# Altium schematic symbol library USB2-HUB.SchLib: 10 symbols
Pins are listed as number, name and electrical type; pins without a type are passive.

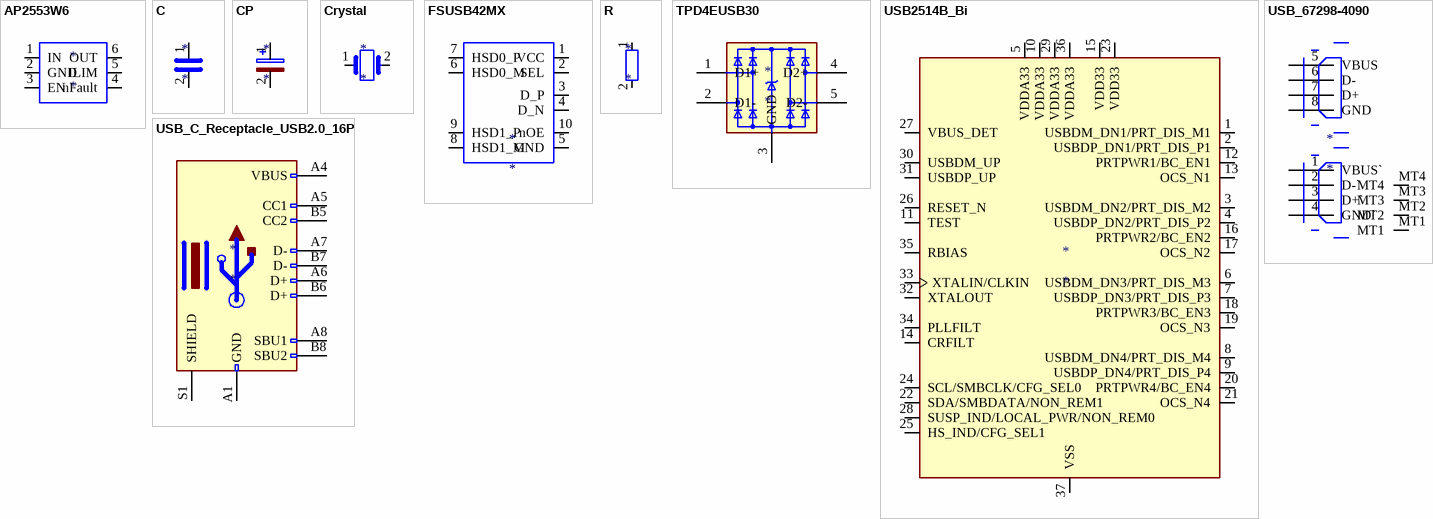
[diagram p0: symbols AP2553W6 to USB_C_Receptacle_USB2.0_16P]

## AP2553W6
designator *
pins: 1 IN, 2 GND, 3 EN, 4 nFault, 5 ILIM, 6 OUT

## C
designator *
pins: 1, 2

## CP
designator *
pins: 1, 2

## Crystal
designator *
pins: 1, 2

## FSUSB42MX
designator *
pins: 1 VCC, 2 SEL, 3 D_P, 4 D_N, 5 GND, 6 HSD0_M, 7 HSD0_P, 8 HSD1_M, 9 HSD1_P, 10 nOE

## R
designator *
pins: 1, 2

## TPD4EUSB30
designator *
pins: 1 D1+, 2 D1-, 3 GND, 4 D2+, 5 D2-, 6 hidden, 7 hidden, 8 GND hidden, 9 hidden, 10 hidden

## USB2514B_Bi
designator *
pins: 1 USBDM_DN1/PRT_DIS_M1, 2 USBDP_DN1/PRT_DIS_P1, 3 USBDM_DN2/PRT_DIS_M2, 4 USBDP_DN2/PRT_DIS_P2, 5 VDDA33, 6 USBDM_DN3/PRT_DIS_M3, 7 USBDP_DN3/PRT_DIS_P3, 8 USBDM_DN4/PRT_DIS_M4, 9 USBDP_DN4/PRT_DIS_P4, 10 VDDA33, 11 TEST, 12 PRTPWR1/BC_EN1, 13 OCS_N1, 14 CRFILT, 15 VDD33, 16 PRTPWR2/BC_EN2, 17 OCS_N2, 18 PRTPWR3/BC_EN3, 19 OCS_N3, 20 PRTPWR4/BC_EN4, 21 OCS_N4, 22 SDA/SMBDATA/NON_REM1, 23 VDD33, 24 SCL/SMBCLK/CFG_SEL0, 25 HS_IND/CFG_SEL1, 26 RESET_N, 27 VBUS_DET, 28 SUSP_IND/LOCAL_PWR/NON_REM0, 29 VDDA33, 30 USBDM_UP, 31 USBDP_UP, 32 XTALOUT, 33 XTALIN/CLKIN, 34 PLLFILT, 35 RBIAS, 36 VDDA33, 37 VSS

## USB_67298-4090
designator *
pins: 1 VBUS`, 2 D-`, 3 D+`, 4 GND`, 5 VBUS, 6 D-, 7 D+, 8 GND, MT1, MT2, MT3, MT4

## USB_C_Receptacle_USB2.0_16P
designator *
pins: A1 GND, A4 VBUS, A5 CC1, A6 D+, A7 D-, A8 SBU1, A9 VBUS hidden, A12 GND hidden, B1 GND hidden, B4 VBUS hidden, B5 CC2, B6 D+, B7 D-, B8 SBU2, B9 VBUS hidden, B12 GND hidden, S1 SHIELD